# Altium footprint library 0603 Capacitor.PcbLib: 1 footprints
Each footprint in its own frame and in the unit in brackets; x right, y up, seen from the top. Pads: shape width x height; smd on the part's side, far side on the other; paste and mask are expansions set on the pad; w line width, h text height; cw(c..) or ccw(c..) is an arc to the next point about the centre after c.
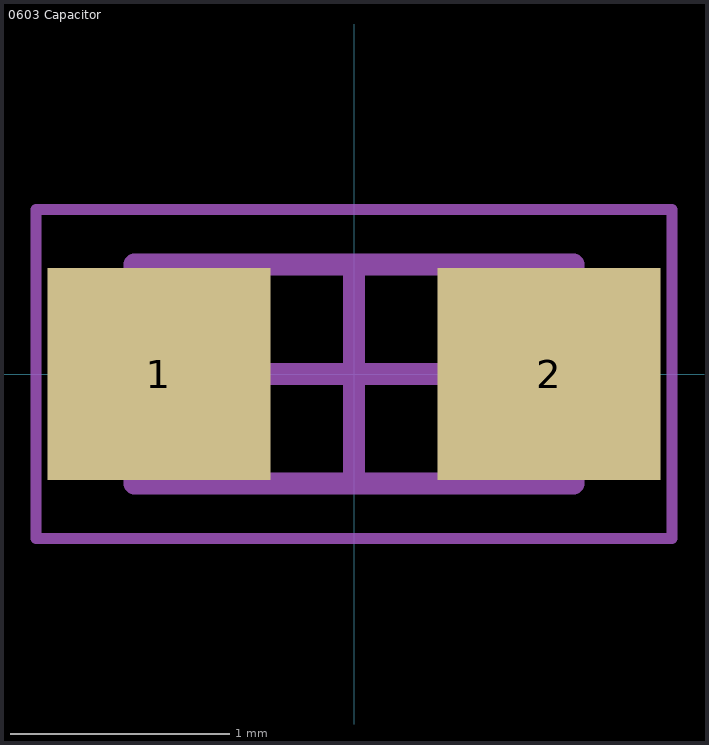
[diagram p0: the footprint, top view; thin cyan lines are the x and y axes]

## 0603 Capacitor [mil] "Chip Capacitor, 2-Leads, Body 1.50x0.80mm, IPC Medium Density"
height 39.37
pads (2):
  rect 40x38 smd: 1(-35,0) 2(35,0)
Mechanical 13:
  lines w3.94: -39.37,-19.68 39.37,-19.68 39.37,19.68 -39.37,19.68 -39.37,-19.68
Mechanical 15:
  lines w1.97: -57.09,-29.53 57.09,-29.53 57.09,29.53 -57.09,29.53 -57.09,-29.53
  lines w3.94: -19.68,0 19.68,0 ; 0,-19.68 0,19.68
3D body: height 39.37, standoff 0, extent 31.5,-19.68 39.37,19.68
3D body: height 39.37, standoff 0, extent -39.37,-19.68 -31.5,19.68
3D body: height 39.37, standoff 0, extent -31.5,-19.68 31.5,19.68